# Altium schematic symbol library VOLTAGE_REG(2.3-5.5V, BST, 5V, 5A, 10VSON).SchLib: 1 symbol
Pins are listed as number, name and electrical type; pins without a type are passive.

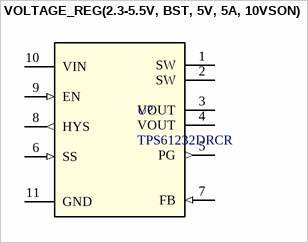
[diagram p0: symbol VOLTAGE_REG(2.3-5.5V, BST, 5V, 5A, 10VSON)]

## VOLTAGE_REG(2.3-5.5V, BST, 5V, 5A, 10VSON)
designator U?, comment TPS61232DRCR
5-A, 5-V fixed output voltage high efficiency synchronous boost converter 10-VSON -40 to 125; Manufacturer: TEXAS; Manufacturer_PN: TPS61232DRCR; Package: 10-VSON; Datasheet: https://www.ti.com/lit/gpn/tps61232; Rule: *; Digikey_Link: https://www.digikey.it/en/products/detail/texas-instruments/TPS61232DRCR/6110563
footprint DRC0010G
pins: 1 SW (power), 2 SW (power), 3 VOUT (power), 4 VOUT (power), 5 PG (out), 6 SS (in), 7 FB (in), 8 HYS (out), 9 EN (in), 10 VIN (power), 11 GND (power)